# Altium integrated library S4B-XH-A_LF__SN_.IntLib: 1 symbol
Pins are listed as number, name and electrical type; pins without a type are passive.

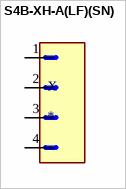
[diagram p0: symbol S4B-XH-A(LF)(SN)]

## S4B-XH-A(LF)(SN)
designator X
Connector Header Through Hole, Right Angle 4 position 0.098 _2.50mm_; MF: JST Sales; MP: S4B-XH-A_LF__SN_; Package: None; Availability: Unavailable; Value: *; SnapEDA_Link: https://www.snapeda.com/parts/S4B-XH-A%28LF%29%28SN%29/JST%20Sales%20America%20Inc./view-part/46875/?ref=snap; Price: None
footprint S4B-XH-A(LF)(SN)
pins: 1, 2, 3, 4